# Altium footprint library PROTECT_TVS_ESD_FUSE.PcbLib: 34 footprints (part 3 of 3)
Each footprint in its own frame and in the unit in brackets; x right, y up, seen from the top. Pads: shape width x height; smd on the part's side, far side on the other; paste and mask are expansions set on the pad; w line width, h text height; cw(c..) or ccw(c..) is an arc to the next point about the centre after c.
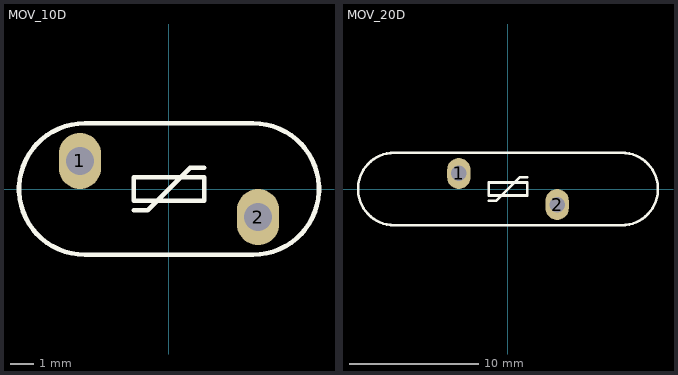
[diagram p2: the footprints below, top view; thin cyan lines are the x and y axes]

## MOV_10D [mm] "VDR, VARISTOR, 12.5X5.6, pitch: 7.6mm, 420VAC(RMS)"
pads (2):
  oval 1.8x2.4 hole 1.2: 1(-3.8,1.2) 2(3.8,-1.2)
Top Overlay:
  lines w0.2: -1.5,-0.9 -0.9,-0.9 -0.8,-0.8 0.9,0.9 1.5,0.9 ; -3.6,-2.8 cw(c-3.6,0) -3.6,2.8 3.6,2.8 cw(c3.6,0) 3.6,-2.8 -3.6,-2.8 ; -1.5,-0.5 1.5,-0.5 1.5,0.5 -1.5,0.5 -1.5,-0.5
3D body "MOV10D-Varistor 10mm.SLDPRT": height 16.25, standoff -2.75, extent -6.245,-2.8 6.245,2.8

## MOV_20D [mm] "VDR, VARISTOR, 23X5.6mm, pitch: 7.6mm, MOV-07DxxxK Metal Oxide Varistor (MOVs)"
pads (2):
  oval 1.8x2.4 hole 1.2: 1(-3.8,1.2) 2(3.8,-1.2)
Top Overlay:
  lines w0.2: -1.5,-0.9 -0.9,-0.9 -0.8,-0.8 0.9,0.9 1.5,0.9 ; -8.8,-2.8 cw(c-8.8,0) -8.8,2.8 8.8,2.8 cw(c8.8,0) 8.8,-2.8 -8.8,-2.8 ; -1.5,-0.5 1.5,-0.5 1.5,0.5 -1.5,0.5 -1.5,-0.5
3D body "MOV20D-Varistor 20mm.SLDPRT": height 26.5, standoff -3, extent -11.492,-2.8 11.492,2.8